# Altium integrated library Maxim Sensors.IntLib: 1172 symbols (part 30 of 61)
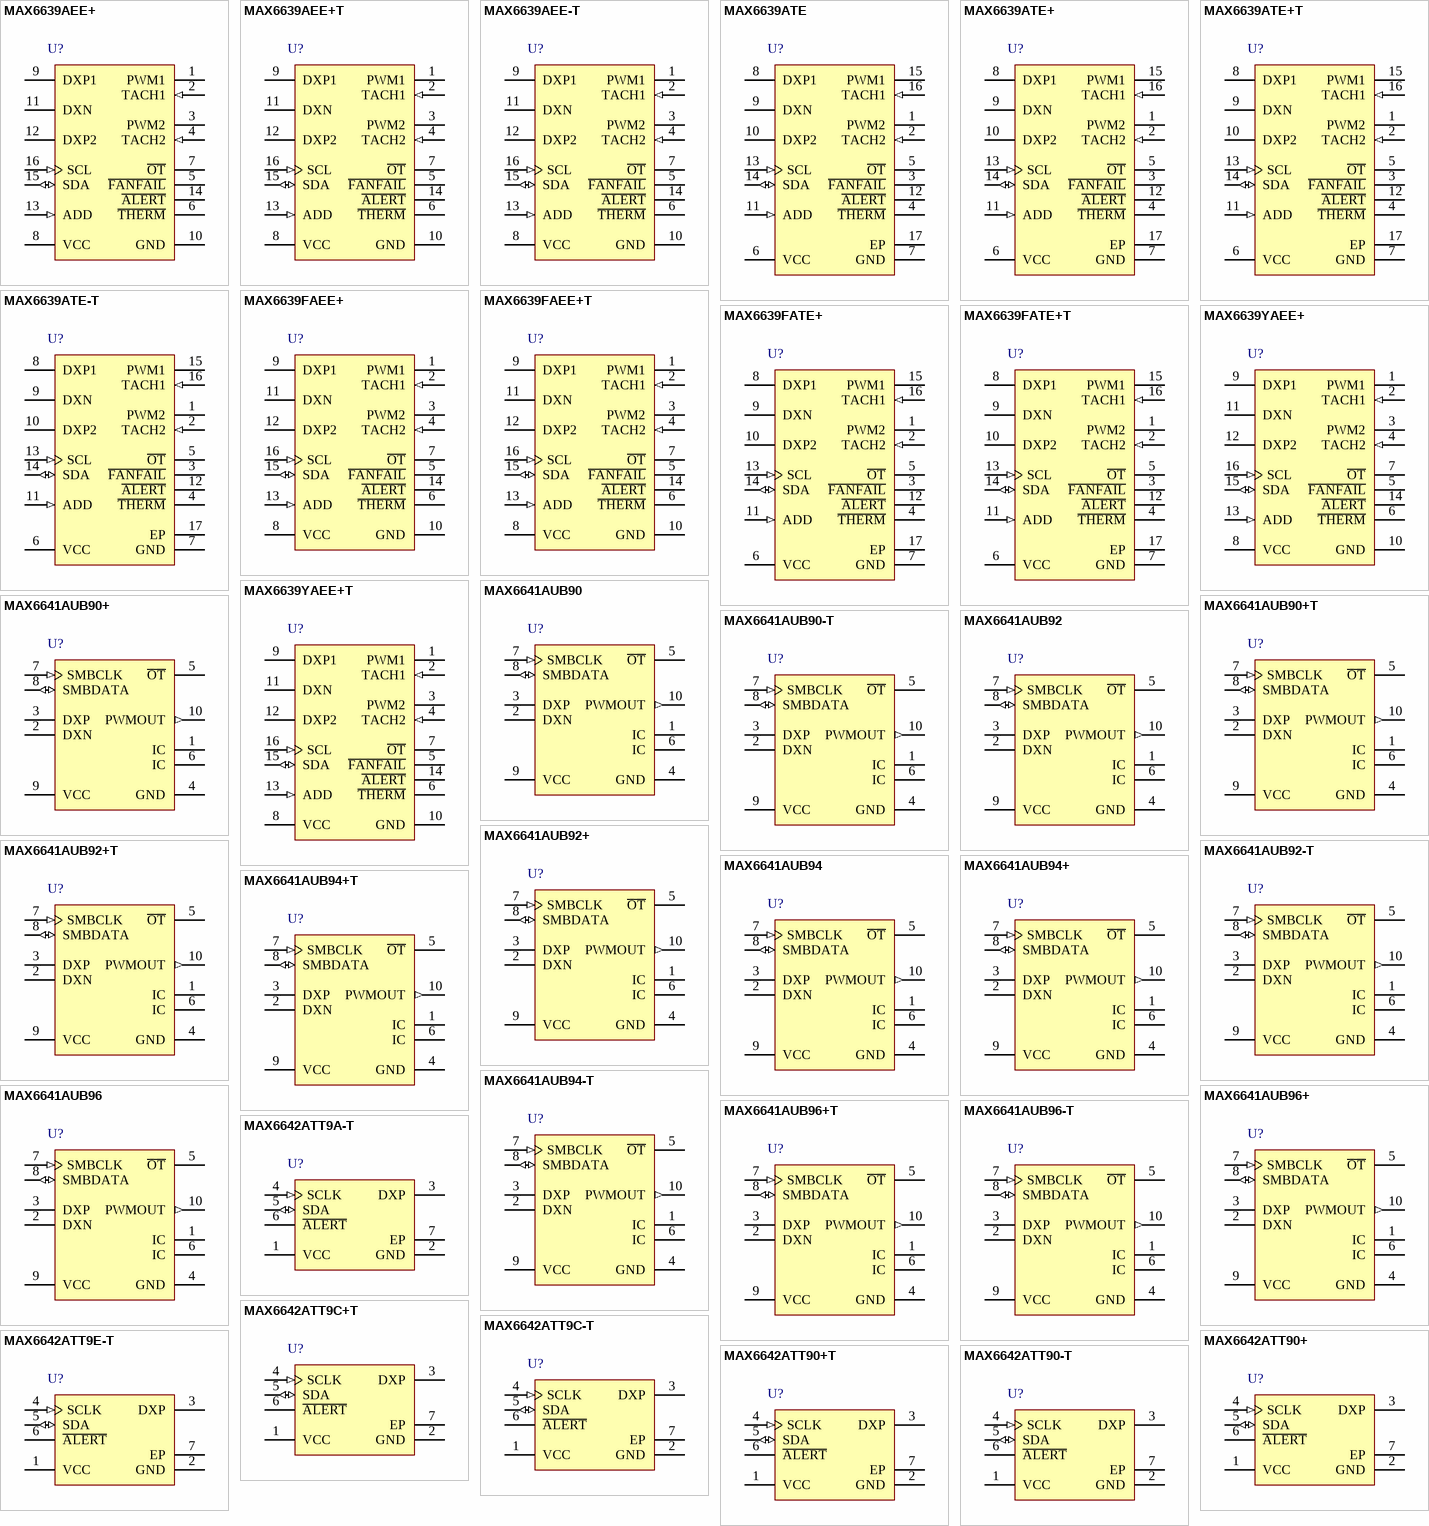
[diagram p62: symbols MAX6639AEE+ to MAX6642ATT90-T]

## MAX6641AUB90-T
designator U?
SMBus-Compatible Temperature Monitor with Automatic PWM Fan-Speed Controller, -40 to 125 degC, 10-Pin SOP (U10-2), Pb-Free, Tape and Reel; Generic Part Number: MAX6641; PartNumber: MAX6641AUB90-T; Interface: 2-Wire/I2C/SMBus; DatasheetVersion: Rev. 1; PackageVersion: Rev. L, 07/2008; PackageReference: U10-2; PackageDescription: 10-Pin Micro-MAX, Thin Shrink Small-Outline (U10-2), Body 3 x 3 mm, Pitch 0.5 mm; Supplier 1: Mouser; Supplier Part Number 1: N/A; Fan Cntrl.: PWM; Packing: Tape and Reel; Mounting Technology: Surface Mount; Code_JEDEC: MO-187; ComponentLink1Description: Manufacturer URL; ComponentLink1URL: http://www.maximintegrated.com/; ComponentLink2Description: Datasheet; ComponentLink2URL: http://datasheets.maximintegrated.com/en/ds/MAX6641.pdf; ComponentLink3Description: Package Specification; ComponentLink3URL: http://pdfserv.maximintegrated.com/package_dwgs/21-0061.PDF
footprint MAXM-U10-2_N (SOP, 10-Leads, Body 3x3mm, Pitch 0.5mm, IPC Medium Density)
footprint MAXM-U10-2_L (SOP, 10-Leads, Body 3x3mm, Pitch 0.5mm, IPC High Density)
footprint MAXM-U10-2_M (SOP, 10-Leads, Body 3x3mm, Pitch 0.5mm, IPC Low Density)
pins: 1 IC (power) "Internally Connected. Must be connected to GND.", 2 DXN "Combined Remote-Diode Cathode Connection and A/D Negative Input. Connect the cathode of the remote-diode-connected transistor to DXN.", 3 DXP "Combined Remote-Diode Current Source and A/D Positive Input for Remote-Diode Channel. Connect DXP to the anode of a remote-diode-connected temperature-sensing transistor. DO NOT EAVE DXP FLOATING; connect to DXN if no remote (See Datasheet)", 4 GND (power) "Ground", 5 ~{OT} (hiz) "Active-Low, Open-Drain, Over-Temperature Output. Use O\T\ as an interrupt, a system shutdown signal, or to control clock throttling. O\T\ can be pulled up to 5.5V, regardless of the voltage on VCC. O\T\ is high impedance (See Datasheet)", 6 IC (power) "Internally Connected. Must be connected to GND.", 7 SMBCLK (in) "SMBus Serial-Clock Input. SMBCLK can be pulled up to 5.5V, regardless of VCC. Open drain.SMBCLK is high impedance when VCC = 0.", 8 SMBDATA (io) "SMBus Serial-Data Input/Output. SMBDATA can be pulled up to 5.5V, regardless of VCC. Open drain. SMBDATA is high impedance when VCC = 0.", 9 VCC (power) "Positive Supply. Bypass with a 0.1uF capacitor to GND.", 10 PWMOUT (out) "PWM Output to Fan Power Transistor. Connect PWMOUT to the gate of a MOSFET or the base of a bipolar transistor to drive the fan’s power supply with a PWM waveform. Alternatively, the PWM output can be connected to the PWM (See Datasheet)"

## MAX6641AUB92
designator U?
SMBus-Compatible Temperature Monitor with Automatic PWM Fan-Speed Controller, -40 to 125 degC, 10-Pin SOP (U10-2); Generic Part Number: MAX6641; PartNumber: MAX6641AUB92; Interface: 2-Wire/I2C/SMBus; DatasheetVersion: Rev. 1; PackageVersion: Rev. L, 07/2008; PackageReference: U10-2; PackageDescription: 10-Pin Micro-MAX, Thin Shrink Small-Outline (U10-2), Body 3 x 3 mm, Pitch 0.5 mm; Supplier 1: Mouser; Supplier Part Number 1: N/A; Fan Cntrl.: PWM; Mounting Technology: Surface Mount; Code_JEDEC: MO-187; ComponentLink1Description: Manufacturer URL; ComponentLink1URL: http://www.maximintegrated.com/; ComponentLink2Description: Datasheet; ComponentLink2URL: http://datasheets.maximintegrated.com/en/ds/MAX6641.pdf; ComponentLink3Description: Package Specification; ComponentLink3URL: http://pdfserv.maximintegrated.com/package_dwgs/21-0061.PDF
footprint MAXM-U10-2_N (SOP, 10-Leads, Body 3x3mm, Pitch 0.5mm, IPC Medium Density)
footprint MAXM-U10-2_L (SOP, 10-Leads, Body 3x3mm, Pitch 0.5mm, IPC High Density)
footprint MAXM-U10-2_M (SOP, 10-Leads, Body 3x3mm, Pitch 0.5mm, IPC Low Density)
pins: 1 IC (power) "Internally Connected. Must be connected to GND.", 2 DXN "Combined Remote-Diode Cathode Connection and A/D Negative Input. Connect the cathode of the remote-diode-connected transistor to DXN.", 3 DXP "Combined Remote-Diode Current Source and A/D Positive Input for Remote-Diode Channel. Connect DXP to the anode of a remote-diode-connected temperature-sensing transistor. DO NOT EAVE DXP FLOATING; connect to DXN if no remote (See Datasheet)", 4 GND (power) "Ground", 5 ~{OT} (hiz) "Active-Low, Open-Drain, Over-Temperature Output. Use O\T\ as an interrupt, a system shutdown signal, or to control clock throttling. O\T\ can be pulled up to 5.5V, regardless of the voltage on VCC. O\T\ is high impedance (See Datasheet)", 6 IC (power) "Internally Connected. Must be connected to GND.", 7 SMBCLK (in) "SMBus Serial-Clock Input. SMBCLK can be pulled up to 5.5V, regardless of VCC. Open drain.SMBCLK is high impedance when VCC = 0.", 8 SMBDATA (io) "SMBus Serial-Data Input/Output. SMBDATA can be pulled up to 5.5V, regardless of VCC. Open drain. SMBDATA is high impedance when VCC = 0.", 9 VCC (power) "Positive Supply. Bypass with a 0.1uF capacitor to GND.", 10 PWMOUT (out) "PWM Output to Fan Power Transistor. Connect PWMOUT to the gate of a MOSFET or the base of a bipolar transistor to drive the fan’s power supply with a PWM waveform. Alternatively, the PWM output can be connected to the PWM (See Datasheet)"

## MAX6641AUB92+
designator U?
SMBus-Compatible Temperature Monitor with Automatic PWM Fan-Speed Controller, -40 to 125 degC, 10-Pin SOP (U10+2), Pb-Free; Generic Part Number: MAX6641; PartNumber: MAX6641AUB92+; Interface: 2-Wire/I2C/SMBus; DatasheetVersion: Rev. 1; PackageVersion: Rev. L, 07/2008; PackageReference: U10+2; PackageDescription: 10-Pin Micro-MAX, Thin Shrink Small-Outline (U10+2), Body 3 x 3 mm, Pitch 0.5 mm; Supplier 1: Digi-Key; Supplier Part Number 1: MAX6641AUB92+-ND; Supplier 2: Mouser; Supplier Part Number 2: 700-MAX6641AUB92; Fan Cntrl.: PWM; Mounting Technology: Surface Mount; Code_JEDEC: MO-187; ComponentLink1Description: Manufacturer URL; ComponentLink1URL: http://www.maximintegrated.com/; ComponentLink2Description: Datasheet; ComponentLink2URL: http://datasheets.maximintegrated.com/en/ds/MAX6641.pdf; ComponentLink3Description: Package Specification; ComponentLink3URL: http://pdfserv.maximintegrated.com/package_dwgs/21-0061.PDF
footprint MAXM-U10+2_N (SOP, 10-Leads, Body 3x3mm, Pitch 0.5mm, IPC Medium Density)
footprint MAXM-U10+2_L (SOP, 10-Leads, Body 3x3mm, Pitch 0.5mm, IPC High Density)
footprint MAXM-U10+2_M (SOP, 10-Leads, Body 3x3mm, Pitch 0.5mm, IPC Low Density)
pins: 1 IC (power) "Internally Connected. Must be connected to GND.", 2 DXN "Combined Remote-Diode Cathode Connection and A/D Negative Input. Connect the cathode of the remote-diode-connected transistor to DXN.", 3 DXP "Combined Remote-Diode Current Source and A/D Positive Input for Remote-Diode Channel. Connect DXP to the anode of a remote-diode-connected temperature-sensing transistor. DO NOT EAVE DXP FLOATING; connect to DXN if no remote (See Datasheet)", 4 GND (power) "Ground", 5 ~{OT} (hiz) "Active-Low, Open-Drain, Over-Temperature Output. Use O\T\ as an interrupt, a system shutdown signal, or to control clock throttling. O\T\ can be pulled up to 5.5V, regardless of the voltage on VCC. O\T\ is high impedance (See Datasheet)", 6 IC (power) "Internally Connected. Must be connected to GND.", 7 SMBCLK (in) "SMBus Serial-Clock Input. SMBCLK can be pulled up to 5.5V, regardless of VCC. Open drain.SMBCLK is high impedance when VCC = 0.", 8 SMBDATA (io) "SMBus Serial-Data Input/Output. SMBDATA can be pulled up to 5.5V, regardless of VCC. Open drain. SMBDATA is high impedance when VCC = 0.", 9 VCC (power) "Positive Supply. Bypass with a 0.1uF capacitor to GND.", 10 PWMOUT (out) "PWM Output to Fan Power Transistor. Connect PWMOUT to the gate of a MOSFET or the base of a bipolar transistor to drive the fan’s power supply with a PWM waveform. Alternatively, the PWM output can be connected to the PWM (See Datasheet)"

## MAX6641AUB92+T
designator U?
SMBus-Compatible Temperature Monitor with Automatic PWM Fan-Speed Controller, -40 to 125 degC, 10-Pin SOP (U10+2), Pb-Free, Tape and Reel; Generic Part Number: MAX6641; PartNumber: MAX6641AUB92+T; Interface: 2-Wire/I2C/SMBus; DatasheetVersion: Rev. 1; PackageVersion: Rev. L, 07/2008; PackageReference: U10+2; PackageDescription: 10-Pin Micro-MAX, Thin Shrink Small-Outline (U10+2), Body 3 x 3 mm, Pitch 0.5 mm; Supplier 1: Digi-Key; Supplier Part Number 1: MAX6641AUB92+T-ND; Supplier 2: Mouser; Supplier Part Number 2: 700-MAX6641AUB92T; Fan Cntrl.: PWM; Packing: Tape and Reel; Mounting Technology: Surface Mount; Code_JEDEC: MO-187; ComponentLink1Description: Manufacturer URL; ComponentLink1URL: http://www.maximintegrated.com/; ComponentLink2Description: Datasheet; ComponentLink2URL: http://datasheets.maximintegrated.com/en/ds/MAX6641.pdf; ComponentLink3Description: Package Specification; ComponentLink3URL: http://pdfserv.maximintegrated.com/package_dwgs/21-0061.PDF
footprint MAXM-U10+2_N (SOP, 10-Leads, Body 3x3mm, Pitch 0.5mm, IPC Medium Density)
footprint MAXM-U10+2_L (SOP, 10-Leads, Body 3x3mm, Pitch 0.5mm, IPC High Density)
footprint MAXM-U10+2_M (SOP, 10-Leads, Body 3x3mm, Pitch 0.5mm, IPC Low Density)
pins: 1 IC (power) "Internally Connected. Must be connected to GND.", 2 DXN "Combined Remote-Diode Cathode Connection and A/D Negative Input. Connect the cathode of the remote-diode-connected transistor to DXN.", 3 DXP "Combined Remote-Diode Current Source and A/D Positive Input for Remote-Diode Channel. Connect DXP to the anode of a remote-diode-connected temperature-sensing transistor. DO NOT EAVE DXP FLOATING; connect to DXN if no remote (See Datasheet)", 4 GND (power) "Ground", 5 ~{OT} (hiz) "Active-Low, Open-Drain, Over-Temperature Output. Use O\T\ as an interrupt, a system shutdown signal, or to control clock throttling. O\T\ can be pulled up to 5.5V, regardless of the voltage on VCC. O\T\ is high impedance (See Datasheet)", 6 IC (power) "Internally Connected. Must be connected to GND.", 7 SMBCLK (in) "SMBus Serial-Clock Input. SMBCLK can be pulled up to 5.5V, regardless of VCC. Open drain.SMBCLK is high impedance when VCC = 0.", 8 SMBDATA (io) "SMBus Serial-Data Input/Output. SMBDATA can be pulled up to 5.5V, regardless of VCC. Open drain. SMBDATA is high impedance when VCC = 0.", 9 VCC (power) "Positive Supply. Bypass with a 0.1uF capacitor to GND.", 10 PWMOUT (out) "PWM Output to Fan Power Transistor. Connect PWMOUT to the gate of a MOSFET or the base of a bipolar transistor to drive the fan’s power supply with a PWM waveform. Alternatively, the PWM output can be connected to the PWM (See Datasheet)"

## MAX6641AUB92-T
designator U?
SMBus-Compatible Temperature Monitor with Automatic PWM Fan-Speed Controller, -40 to 125 degC, 10-Pin SOP (U10-2), Pb-Free, Tape and Reel; Generic Part Number: MAX6641; PartNumber: MAX6641AUB92-T; Interface: 2-Wire/I2C/SMBus; DatasheetVersion: Rev. 1; PackageVersion: Rev. L, 07/2008; PackageReference: U10-2; PackageDescription: 10-Pin Micro-MAX, Thin Shrink Small-Outline (U10-2), Body 3 x 3 mm, Pitch 0.5 mm; Supplier 1: Mouser; Supplier Part Number 1: N/A; Fan Cntrl.: PWM; Packing: Tape and Reel; Mounting Technology: Surface Mount; Code_JEDEC: MO-187; ComponentLink1Description: Manufacturer URL; ComponentLink1URL: http://www.maximintegrated.com/; ComponentLink2Description: Datasheet; ComponentLink2URL: http://datasheets.maximintegrated.com/en/ds/MAX6641.pdf; ComponentLink3Description: Package Specification; ComponentLink3URL: http://pdfserv.maximintegrated.com/package_dwgs/21-0061.PDF
footprint MAXM-U10-2_N (SOP, 10-Leads, Body 3x3mm, Pitch 0.5mm, IPC Medium Density)
footprint MAXM-U10-2_L (SOP, 10-Leads, Body 3x3mm, Pitch 0.5mm, IPC High Density)
footprint MAXM-U10-2_M (SOP, 10-Leads, Body 3x3mm, Pitch 0.5mm, IPC Low Density)
pins: 1 IC (power) "Internally Connected. Must be connected to GND.", 2 DXN "Combined Remote-Diode Cathode Connection and A/D Negative Input. Connect the cathode of the remote-diode-connected transistor to DXN.", 3 DXP "Combined Remote-Diode Current Source and A/D Positive Input for Remote-Diode Channel. Connect DXP to the anode of a remote-diode-connected temperature-sensing transistor. DO NOT EAVE DXP FLOATING; connect to DXN if no remote (See Datasheet)", 4 GND (power) "Ground", 5 ~{OT} (hiz) "Active-Low, Open-Drain, Over-Temperature Output. Use O\T\ as an interrupt, a system shutdown signal, or to control clock throttling. O\T\ can be pulled up to 5.5V, regardless of the voltage on VCC. O\T\ is high impedance (See Datasheet)", 6 IC (power) "Internally Connected. Must be connected to GND.", 7 SMBCLK (in) "SMBus Serial-Clock Input. SMBCLK can be pulled up to 5.5V, regardless of VCC. Open drain.SMBCLK is high impedance when VCC = 0.", 8 SMBDATA (io) "SMBus Serial-Data Input/Output. SMBDATA can be pulled up to 5.5V, regardless of VCC. Open drain. SMBDATA is high impedance when VCC = 0.", 9 VCC (power) "Positive Supply. Bypass with a 0.1uF capacitor to GND.", 10 PWMOUT (out) "PWM Output to Fan Power Transistor. Connect PWMOUT to the gate of a MOSFET or the base of a bipolar transistor to drive the fan’s power supply with a PWM waveform. Alternatively, the PWM output can be connected to the PWM (See Datasheet)"

## MAX6641AUB94
designator U?
SMBus-Compatible Temperature Monitor with Automatic PWM Fan-Speed Controller, -40 to 125 degC, 10-Pin SOP (U10-2); Generic Part Number: MAX6641; PartNumber: MAX6641AUB94; Interface: 2-Wire/I2C/SMBus; DatasheetVersion: Rev. 1; PackageVersion: Rev. L, 07/2008; PackageReference: U10-2; PackageDescription: 10-Pin Micro-MAX, Thin Shrink Small-Outline (U10-2), Body 3 x 3 mm, Pitch 0.5 mm; Supplier 1: Mouser; Supplier Part Number 1: N/A; Fan Cntrl.: PWM; Mounting Technology: Surface Mount; Code_JEDEC: MO-187; ComponentLink1Description: Manufacturer URL; ComponentLink1URL: http://www.maximintegrated.com/; ComponentLink2Description: Datasheet; ComponentLink2URL: http://datasheets.maximintegrated.com/en/ds/MAX6641.pdf; ComponentLink3Description: Package Specification; ComponentLink3URL: http://pdfserv.maximintegrated.com/package_dwgs/21-0061.PDF
footprint MAXM-U10-2_N (SOP, 10-Leads, Body 3x3mm, Pitch 0.5mm, IPC Medium Density)
footprint MAXM-U10-2_L (SOP, 10-Leads, Body 3x3mm, Pitch 0.5mm, IPC High Density)
footprint MAXM-U10-2_M (SOP, 10-Leads, Body 3x3mm, Pitch 0.5mm, IPC Low Density)
pins: 1 IC (power) "Internally Connected. Must be connected to GND.", 2 DXN "Combined Remote-Diode Cathode Connection and A/D Negative Input. Connect the cathode of the remote-diode-connected transistor to DXN.", 3 DXP "Combined Remote-Diode Current Source and A/D Positive Input for Remote-Diode Channel. Connect DXP to the anode of a remote-diode-connected temperature-sensing transistor. DO NOT EAVE DXP FLOATING; connect to DXN if no remote (See Datasheet)", 4 GND (power) "Ground", 5 ~{OT} (hiz) "Active-Low, Open-Drain, Over-Temperature Output. Use O\T\ as an interrupt, a system shutdown signal, or to control clock throttling. O\T\ can be pulled up to 5.5V, regardless of the voltage on VCC. O\T\ is high impedance (See Datasheet)", 6 IC (power) "Internally Connected. Must be connected to GND.", 7 SMBCLK (in) "SMBus Serial-Clock Input. SMBCLK can be pulled up to 5.5V, regardless of VCC. Open drain.SMBCLK is high impedance when VCC = 0.", 8 SMBDATA (io) "SMBus Serial-Data Input/Output. SMBDATA can be pulled up to 5.5V, regardless of VCC. Open drain. SMBDATA is high impedance when VCC = 0.", 9 VCC (power) "Positive Supply. Bypass with a 0.1uF capacitor to GND.", 10 PWMOUT (out) "PWM Output to Fan Power Transistor. Connect PWMOUT to the gate of a MOSFET or the base of a bipolar transistor to drive the fan’s power supply with a PWM waveform. Alternatively, the PWM output can be connected to the PWM (See Datasheet)"

## MAX6641AUB94+
designator U?
SMBus-Compatible Temperature Monitor with Automatic PWM Fan-Speed Controller, -40 to 125 degC, 10-Pin SOP (U10+2), Pb-Free; Generic Part Number: MAX6641; PartNumber: MAX6641AUB94+; Interface: 2-Wire/I2C/SMBus; DatasheetVersion: Rev. 1; PackageVersion: Rev. L, 07/2008; PackageReference: U10+2; PackageDescription: 10-Pin Micro-MAX, Thin Shrink Small-Outline (U10+2), Body 3 x 3 mm, Pitch 0.5 mm; Supplier 1: Digi-Key; Supplier Part Number 1: MAX6641AUB94+-ND; Supplier 2: Mouser; Supplier Part Number 2: 700-MAX6641AUB94; Fan Cntrl.: PWM; Mounting Technology: Surface Mount; Code_JEDEC: MO-187; ComponentLink1Description: Manufacturer URL; ComponentLink1URL: http://www.maximintegrated.com/; ComponentLink2Description: Datasheet; ComponentLink2URL: http://datasheets.maximintegrated.com/en/ds/MAX6641.pdf; ComponentLink3Description: Package Specification; ComponentLink3URL: http://pdfserv.maximintegrated.com/package_dwgs/21-0061.PDF
footprint MAXM-U10+2_N (SOP, 10-Leads, Body 3x3mm, Pitch 0.5mm, IPC Medium Density)
footprint MAXM-U10+2_L (SOP, 10-Leads, Body 3x3mm, Pitch 0.5mm, IPC High Density)
footprint MAXM-U10+2_M (SOP, 10-Leads, Body 3x3mm, Pitch 0.5mm, IPC Low Density)
pins: 1 IC (power) "Internally Connected. Must be connected to GND.", 2 DXN "Combined Remote-Diode Cathode Connection and A/D Negative Input. Connect the cathode of the remote-diode-connected transistor to DXN.", 3 DXP "Combined Remote-Diode Current Source and A/D Positive Input for Remote-Diode Channel. Connect DXP to the anode of a remote-diode-connected temperature-sensing transistor. DO NOT EAVE DXP FLOATING; connect to DXN if no remote (See Datasheet)", 4 GND (power) "Ground", 5 ~{OT} (hiz) "Active-Low, Open-Drain, Over-Temperature Output. Use O\T\ as an interrupt, a system shutdown signal, or to control clock throttling. O\T\ can be pulled up to 5.5V, regardless of the voltage on VCC. O\T\ is high impedance (See Datasheet)", 6 IC (power) "Internally Connected. Must be connected to GND.", 7 SMBCLK (in) "SMBus Serial-Clock Input. SMBCLK can be pulled up to 5.5V, regardless of VCC. Open drain.SMBCLK is high impedance when VCC = 0.", 8 SMBDATA (io) "SMBus Serial-Data Input/Output. SMBDATA can be pulled up to 5.5V, regardless of VCC. Open drain. SMBDATA is high impedance when VCC = 0.", 9 VCC (power) "Positive Supply. Bypass with a 0.1uF capacitor to GND.", 10 PWMOUT (out) "PWM Output to Fan Power Transistor. Connect PWMOUT to the gate of a MOSFET or the base of a bipolar transistor to drive the fan’s power supply with a PWM waveform. Alternatively, the PWM output can be connected to the PWM (See Datasheet)"

## MAX6641AUB94+T
designator U?
SMBus-Compatible Temperature Monitor with Automatic PWM Fan-Speed Controller, -40 to 125 degC, 10-Pin SOP (U10+2), Pb-Free, Tape and Reel; Generic Part Number: MAX6641; PartNumber: MAX6641AUB94+T; Interface: 2-Wire/I2C/SMBus; DatasheetVersion: Rev. 1; PackageVersion: Rev. L, 07/2008; PackageReference: U10+2; PackageDescription: 10-Pin Micro-MAX, Thin Shrink Small-Outline (U10+2), Body 3 x 3 mm, Pitch 0.5 mm; Supplier 1: Digi-Key; Supplier Part Number 1: MAX6641AUB94+T-ND; Supplier 2: Mouser; Supplier Part Number 2: 700-MAX6641AUB94T; Fan Cntrl.: PWM; Packing: Tape and Reel; Mounting Technology: Surface Mount; Code_JEDEC: MO-187; ComponentLink1Description: Manufacturer URL; ComponentLink1URL: http://www.maximintegrated.com/; ComponentLink2Description: Datasheet; ComponentLink2URL: http://datasheets.maximintegrated.com/en/ds/MAX6641.pdf; ComponentLink3Description: Package Specification; ComponentLink3URL: http://pdfserv.maximintegrated.com/package_dwgs/21-0061.PDF
footprint MAXM-U10+2_N (SOP, 10-Leads, Body 3x3mm, Pitch 0.5mm, IPC Medium Density)
footprint MAXM-U10+2_L (SOP, 10-Leads, Body 3x3mm, Pitch 0.5mm, IPC High Density)
footprint MAXM-U10+2_M (SOP, 10-Leads, Body 3x3mm, Pitch 0.5mm, IPC Low Density)
pins: 1 IC (power) "Internally Connected. Must be connected to GND.", 2 DXN "Combined Remote-Diode Cathode Connection and A/D Negative Input. Connect the cathode of the remote-diode-connected transistor to DXN.", 3 DXP "Combined Remote-Diode Current Source and A/D Positive Input for Remote-Diode Channel. Connect DXP to the anode of a remote-diode-connected temperature-sensing transistor. DO NOT EAVE DXP FLOATING; connect to DXN if no remote (See Datasheet)", 4 GND (power) "Ground", 5 ~{OT} (hiz) "Active-Low, Open-Drain, Over-Temperature Output. Use O\T\ as an interrupt, a system shutdown signal, or to control clock throttling. O\T\ can be pulled up to 5.5V, regardless of the voltage on VCC. O\T\ is high impedance (See Datasheet)", 6 IC (power) "Internally Connected. Must be connected to GND.", 7 SMBCLK (in) "SMBus Serial-Clock Input. SMBCLK can be pulled up to 5.5V, regardless of VCC. Open drain.SMBCLK is high impedance when VCC = 0.", 8 SMBDATA (io) "SMBus Serial-Data Input/Output. SMBDATA can be pulled up to 5.5V, regardless of VCC. Open drain. SMBDATA is high impedance when VCC = 0.", 9 VCC (power) "Positive Supply. Bypass with a 0.1uF capacitor to GND.", 10 PWMOUT (out) "PWM Output to Fan Power Transistor. Connect PWMOUT to the gate of a MOSFET or the base of a bipolar transistor to drive the fan’s power supply with a PWM waveform. Alternatively, the PWM output can be connected to the PWM (See Datasheet)"

## MAX6641AUB94-T
designator U?
SMBus-Compatible Temperature Monitor with Automatic PWM Fan-Speed Controller, -40 to 125 degC, 10-Pin SOP (U10-2), Tape and Reel; Generic Part Number: MAX6641; PartNumber: MAX6641AUB94-T; Interface: 2-Wire/I2C/SMBus; DatasheetVersion: Rev. 1; PackageVersion: Rev. L, 07/2008; PackageReference: U10-2; PackageDescription: 10-Pin Micro-MAX, Thin Shrink Small-Outline (U10-2), Body 3 x 3 mm, Pitch 0.5 mm; Supplier 1: Mouser; Supplier Part Number 1: N/A; Fan Cntrl.: PWM; Packing: Tape and Reel; Mounting Technology: Surface Mount; Code_JEDEC: MO-187; ComponentLink1Description: Manufacturer URL; ComponentLink1URL: http://www.maximintegrated.com/; ComponentLink2Description: Datasheet; ComponentLink2URL: http://datasheets.maximintegrated.com/en/ds/MAX6641.pdf; ComponentLink3Description: Package Specification; ComponentLink3URL: http://pdfserv.maximintegrated.com/package_dwgs/21-0061.PDF
footprint MAXM-U10-2_N (SOP, 10-Leads, Body 3x3mm, Pitch 0.5mm, IPC Medium Density)
footprint MAXM-U10-2_L (SOP, 10-Leads, Body 3x3mm, Pitch 0.5mm, IPC High Density)
footprint MAXM-U10-2_M (SOP, 10-Leads, Body 3x3mm, Pitch 0.5mm, IPC Low Density)
pins: 1 IC (power) "Internally Connected. Must be connected to GND.", 2 DXN "Combined Remote-Diode Cathode Connection and A/D Negative Input. Connect the cathode of the remote-diode-connected transistor to DXN.", 3 DXP "Combined Remote-Diode Current Source and A/D Positive Input for Remote-Diode Channel. Connect DXP to the anode of a remote-diode-connected temperature-sensing transistor. DO NOT EAVE DXP FLOATING; connect to DXN if no remote (See Datasheet)", 4 GND (power) "Ground", 5 ~{OT} (hiz) "Active-Low, Open-Drain, Over-Temperature Output. Use O\T\ as an interrupt, a system shutdown signal, or to control clock throttling. O\T\ can be pulled up to 5.5V, regardless of the voltage on VCC. O\T\ is high impedance (See Datasheet)", 6 IC (power) "Internally Connected. Must be connected to GND.", 7 SMBCLK (in) "SMBus Serial-Clock Input. SMBCLK can be pulled up to 5.5V, regardless of VCC. Open drain.SMBCLK is high impedance when VCC = 0.", 8 SMBDATA (io) "SMBus Serial-Data Input/Output. SMBDATA can be pulled up to 5.5V, regardless of VCC. Open drain. SMBDATA is high impedance when VCC = 0.", 9 VCC (power) "Positive Supply. Bypass with a 0.1uF capacitor to GND.", 10 PWMOUT (out) "PWM Output to Fan Power Transistor. Connect PWMOUT to the gate of a MOSFET or the base of a bipolar transistor to drive the fan’s power supply with a PWM waveform. Alternatively, the PWM output can be connected to the PWM (See Datasheet)"

## MAX6641AUB96
designator U?
SMBus-Compatible Temperature Monitor with Automatic PWM Fan-Speed Controller, -40 to 125 degC, 10-Pin SOP (U10-2); Generic Part Number: MAX6641; PartNumber: MAX6641AUB96; Interface: 2-Wire/I2C/SMBus; DatasheetVersion: Rev. 1; PackageVersion: Rev. L, 07/2008; PackageReference: U10-2; PackageDescription: 10-Pin Micro-MAX, Thin Shrink Small-Outline (U10-2), Body 3 x 3 mm, Pitch 0.5 mm; Supplier 1: Mouser; Supplier Part Number 1: N/A; Fan Cntrl.: PWM; Mounting Technology: Surface Mount; Code_JEDEC: MO-187; ComponentLink1Description: Manufacturer URL; ComponentLink1URL: http://www.maximintegrated.com/; ComponentLink2Description: Datasheet; ComponentLink2URL: http://datasheets.maximintegrated.com/en/ds/MAX6641.pdf; ComponentLink3Description: Package Specification; ComponentLink3URL: http://pdfserv.maximintegrated.com/package_dwgs/21-0061.PDF
footprint MAXM-U10-2_N (SOP, 10-Leads, Body 3x3mm, Pitch 0.5mm, IPC Medium Density)
footprint MAXM-U10-2_L (SOP, 10-Leads, Body 3x3mm, Pitch 0.5mm, IPC High Density)
footprint MAXM-U10-2_M (SOP, 10-Leads, Body 3x3mm, Pitch 0.5mm, IPC Low Density)
pins: 1 IC (power) "Internally Connected. Must be connected to GND.", 2 DXN "Combined Remote-Diode Cathode Connection and A/D Negative Input. Connect the cathode of the remote-diode-connected transistor to DXN.", 3 DXP "Combined Remote-Diode Current Source and A/D Positive Input for Remote-Diode Channel. Connect DXP to the anode of a remote-diode-connected temperature-sensing transistor. DO NOT EAVE DXP FLOATING; connect to DXN if no remote (See Datasheet)", 4 GND (power) "Ground", 5 ~{OT} (hiz) "Active-Low, Open-Drain, Over-Temperature Output. Use O\T\ as an interrupt, a system shutdown signal, or to control clock throttling. O\T\ can be pulled up to 5.5V, regardless of the voltage on VCC. O\T\ is high impedance (See Datasheet)", 6 IC (power) "Internally Connected. Must be connected to GND.", 7 SMBCLK (in) "SMBus Serial-Clock Input. SMBCLK can be pulled up to 5.5V, regardless of VCC. Open drain.SMBCLK is high impedance when VCC = 0.", 8 SMBDATA (io) "SMBus Serial-Data Input/Output. SMBDATA can be pulled up to 5.5V, regardless of VCC. Open drain. SMBDATA is high impedance when VCC = 0.", 9 VCC (power) "Positive Supply. Bypass with a 0.1uF capacitor to GND.", 10 PWMOUT (out) "PWM Output to Fan Power Transistor. Connect PWMOUT to the gate of a MOSFET or the base of a bipolar transistor to drive the fan’s power supply with a PWM waveform. Alternatively, the PWM output can be connected to the PWM (See Datasheet)"

## MAX6641AUB96+
designator U?
SMBus-Compatible Temperature Monitor with Automatic PWM Fan-Speed Controller, -40 to 125 degC, 10-Pin SOP (U10+2), Pb-Free; Generic Part Number: MAX6641; PartNumber: MAX6641AUB96+; Interface: 2-Wire/I2C/SMBus; DatasheetVersion: Rev. 1; PackageVersion: Rev. L, 07/2008; PackageReference: U10+2; PackageDescription: 10-Pin Micro-MAX, Thin Shrink Small-Outline (U10+2), Body 3 x 3 mm, Pitch 0.5 mm; Supplier 1: Digi-Key; Supplier Part Number 1: MAX6641AUB96+-ND; Supplier 2: Mouser; Supplier Part Number 2: 700-MAX6641AUB96; Fan Cntrl.: PWM; Mounting Technology: Surface Mount; Code_JEDEC: MO-187; ComponentLink1Description: Manufacturer URL; ComponentLink1URL: http://www.maximintegrated.com/; ComponentLink2Description: Datasheet; ComponentLink2URL: http://datasheets.maximintegrated.com/en/ds/MAX6641.pdf; ComponentLink3Description: Package Specification; ComponentLink3URL: http://pdfserv.maximintegrated.com/package_dwgs/21-0061.PDF
footprint MAXM-U10+2_N (SOP, 10-Leads, Body 3x3mm, Pitch 0.5mm, IPC Medium Density)
footprint MAXM-U10+2_L (SOP, 10-Leads, Body 3x3mm, Pitch 0.5mm, IPC High Density)
footprint MAXM-U10+2_M (SOP, 10-Leads, Body 3x3mm, Pitch 0.5mm, IPC Low Density)
pins: 1 IC (power) "Internally Connected. Must be connected to GND.", 2 DXN "Combined Remote-Diode Cathode Connection and A/D Negative Input. Connect the cathode of the remote-diode-connected transistor to DXN.", 3 DXP "Combined Remote-Diode Current Source and A/D Positive Input for Remote-Diode Channel. Connect DXP to the anode of a remote-diode-connected temperature-sensing transistor. DO NOT EAVE DXP FLOATING; connect to DXN if no remote (See Datasheet)", 4 GND (power) "Ground", 5 ~{OT} (hiz) "Active-Low, Open-Drain, Over-Temperature Output. Use O\T\ as an interrupt, a system shutdown signal, or to control clock throttling. O\T\ can be pulled up to 5.5V, regardless of the voltage on VCC. O\T\ is high impedance (See Datasheet)", 6 IC (power) "Internally Connected. Must be connected to GND.", 7 SMBCLK (in) "SMBus Serial-Clock Input. SMBCLK can be pulled up to 5.5V, regardless of VCC. Open drain.SMBCLK is high impedance when VCC = 0.", 8 SMBDATA (io) "SMBus Serial-Data Input/Output. SMBDATA can be pulled up to 5.5V, regardless of VCC. Open drain. SMBDATA is high impedance when VCC = 0.", 9 VCC (power) "Positive Supply. Bypass with a 0.1uF capacitor to GND.", 10 PWMOUT (out) "PWM Output to Fan Power Transistor. Connect PWMOUT to the gate of a MOSFET or the base of a bipolar transistor to drive the fan’s power supply with a PWM waveform. Alternatively, the PWM output can be connected to the PWM (See Datasheet)"

## MAX6641AUB96+T
designator U?
SMBus-Compatible Temperature Monitor with Automatic PWM Fan-Speed Controller, -40 to 125 degC, 10-Pin SOP (U10+2), Pb-Free, Tape and Reel; Generic Part Number: MAX6641; PartNumber: MAX6641AUB96+T; Interface: 2-Wire/I2C/SMBus; DatasheetVersion: Rev. 1; PackageVersion: Rev. L, 07/2008; PackageReference: U10+2; PackageDescription: 10-Pin Micro-MAX, Thin Shrink Small-Outline (U10+2), Body 3 x 3 mm, Pitch 0.5 mm; Supplier 1: Digi-Key; Supplier Part Number 1: MAX6641AUB96+T-ND; Supplier 2: Mouser; Supplier Part Number 2: 700-MAX6641AUB96T; Fan Cntrl.: PWM; Packing: Tape and Reel; Mounting Technology: Surface Mount; Code_JEDEC: MO-187; ComponentLink1Description: Manufacturer URL; ComponentLink1URL: http://www.maximintegrated.com/; ComponentLink2Description: Datasheet; ComponentLink2URL: http://datasheets.maximintegrated.com/en/ds/MAX6641.pdf; ComponentLink3Description: Package Specification; ComponentLink3URL: http://pdfserv.maximintegrated.com/package_dwgs/21-0061.PDF
footprint MAXM-U10+2_N (SOP, 10-Leads, Body 3x3mm, Pitch 0.5mm, IPC Medium Density)
footprint MAXM-U10+2_L (SOP, 10-Leads, Body 3x3mm, Pitch 0.5mm, IPC High Density)
footprint MAXM-U10+2_M (SOP, 10-Leads, Body 3x3mm, Pitch 0.5mm, IPC Low Density)
pins: 1 IC (power) "Internally Connected. Must be connected to GND.", 2 DXN "Combined Remote-Diode Cathode Connection and A/D Negative Input. Connect the cathode of the remote-diode-connected transistor to DXN.", 3 DXP "Combined Remote-Diode Current Source and A/D Positive Input for Remote-Diode Channel. Connect DXP to the anode of a remote-diode-connected temperature-sensing transistor. DO NOT EAVE DXP FLOATING; connect to DXN if no remote (See Datasheet)", 4 GND (power) "Ground", 5 ~{OT} (hiz) "Active-Low, Open-Drain, Over-Temperature Output. Use O\T\ as an interrupt, a system shutdown signal, or to control clock throttling. O\T\ can be pulled up to 5.5V, regardless of the voltage on VCC. O\T\ is high impedance (See Datasheet)", 6 IC (power) "Internally Connected. Must be connected to GND.", 7 SMBCLK (in) "SMBus Serial-Clock Input. SMBCLK can be pulled up to 5.5V, regardless of VCC. Open drain.SMBCLK is high impedance when VCC = 0.", 8 SMBDATA (io) "SMBus Serial-Data Input/Output. SMBDATA can be pulled up to 5.5V, regardless of VCC. Open drain. SMBDATA is high impedance when VCC = 0.", 9 VCC (power) "Positive Supply. Bypass with a 0.1uF capacitor to GND.", 10 PWMOUT (out) "PWM Output to Fan Power Transistor. Connect PWMOUT to the gate of a MOSFET or the base of a bipolar transistor to drive the fan’s power supply with a PWM waveform. Alternatively, the PWM output can be connected to the PWM (See Datasheet)"

## MAX6641AUB96-T
designator U?
SMBus-Compatible Temperature Monitor with Automatic PWM Fan-Speed Controller, -40 to 125 degC, 10-Pin SOP (U10-2), Tape and Reel; Generic Part Number: MAX6641; PartNumber: MAX6641AUB96-T; Interface: 2-Wire/I2C/SMBus; DatasheetVersion: Rev. 1; PackageVersion: Rev. L, 07/2008; PackageReference: U10-2; PackageDescription: 10-Pin Micro-MAX, Thin Shrink Small-Outline (U10-2), Body 3 x 3 mm, Pitch 0.5 mm; Supplier 1: Mouser; Supplier Part Number 1: N/A; Fan Cntrl.: PWM; Packing: Tape and Reel; Mounting Technology: Surface Mount; Code_JEDEC: MO-187; ComponentLink1Description: Manufacturer URL; ComponentLink1URL: http://www.maximintegrated.com/; ComponentLink2Description: Datasheet; ComponentLink2URL: http://datasheets.maximintegrated.com/en/ds/MAX6641.pdf; ComponentLink3Description: Package Specification; ComponentLink3URL: http://pdfserv.maximintegrated.com/package_dwgs/21-0061.PDF
footprint MAXM-U10-2_N (SOP, 10-Leads, Body 3x3mm, Pitch 0.5mm, IPC Medium Density)
footprint MAXM-U10-2_L (SOP, 10-Leads, Body 3x3mm, Pitch 0.5mm, IPC High Density)
footprint MAXM-U10-2_M (SOP, 10-Leads, Body 3x3mm, Pitch 0.5mm, IPC Low Density)
pins: 1 IC (power) "Internally Connected. Must be connected to GND.", 2 DXN "Combined Remote-Diode Cathode Connection and A/D Negative Input. Connect the cathode of the remote-diode-connected transistor to DXN.", 3 DXP "Combined Remote-Diode Current Source and A/D Positive Input for Remote-Diode Channel. Connect DXP to the anode of a remote-diode-connected temperature-sensing transistor. DO NOT EAVE DXP FLOATING; connect to DXN if no remote (See Datasheet)", 4 GND (power) "Ground", 5 ~{OT} (hiz) "Active-Low, Open-Drain, Over-Temperature Output. Use O\T\ as an interrupt, a system shutdown signal, or to control clock throttling. O\T\ can be pulled up to 5.5V, regardless of the voltage on VCC. O\T\ is high impedance (See Datasheet)", 6 IC (power) "Internally Connected. Must be connected to GND.", 7 SMBCLK (in) "SMBus Serial-Clock Input. SMBCLK can be pulled up to 5.5V, regardless of VCC. Open drain.SMBCLK is high impedance when VCC = 0.", 8 SMBDATA (io) "SMBus Serial-Data Input/Output. SMBDATA can be pulled up to 5.5V, regardless of VCC. Open drain. SMBDATA is high impedance when VCC = 0.", 9 VCC (power) "Positive Supply. Bypass with a 0.1uF capacitor to GND.", 10 PWMOUT (out) "PWM Output to Fan Power Transistor. Connect PWMOUT to the gate of a MOSFET or the base of a bipolar transistor to drive the fan’s power supply with a PWM waveform. Alternatively, the PWM output can be connected to the PWM (See Datasheet)"

## MAX6642ATT9A-T
designator U?
+ / -1 degC, SMBus-Compatible Remote / Local Temperature Sensor with Overtemperature Alarm, 10 Bits Temperature Resolution, -40 to 125 degC, 6-Pin SON (T633-2), Tape and Reel; Generic Part Number: MAX6642; PartNumber: MAX6642ATT9A-T; Alarm Output: Alert; Functions: Remote & Local Sensor, Single Temperature Alarm; Interface: 2-Wire/I2C/SMBus; Parasite Pwr.: No; DatasheetVersion: Rev. 3; PackageVersion: Rev. J, 08/2009; PackageReference: T633-2; PackageDescription: 6-Pin Plastic Very Very Thin Dual Flatpack No Leads, Exposed Pad, Body 3 x 3 mm, Exposed Pad 2.3 x 1.5 mm, Pitch 0.95 mm; Supplier 1: Mouser; Supplier Part Number 1: N/A; Packing: Tape and Reel; Mounting Technology: Surface Mount; Code_JEDEC: MO-229; ComponentLink1Description: Manufacturer URL; ComponentLink1URL: http://www.maximintegrated.com/; ComponentLink2Description: Datasheet; ComponentLink2URL: http://datasheets.maximintegrated.com/en/ds/MAX6642.pdf; ComponentLink3Description: Package Specification; ComponentLink3URL: http://pdfserv.maximintegrated.com/package_dwgs/21-0137.PDF
footprint MAXM-T633-2_V (SON, 6-Leads, Body 3x3mm, Pitch 0.95mm, Thermal Pad 1.5x2.3mm)
pins: 1 VCC (power) "Supply Voltage Input, +3V to +5.5V. Bypass VCC to GND with a 0.1uF capacitor. A 47ohm series resistor is recommended but not required for additional noise filtering.", 2 GND (power) "Ground", 3 DXP "Combined Remote-Diode Current Source and ADC Input for Remote-Diode Channel. Place a 2200pF capacitor between DXP and GND for noise filtering.", 4 SCLK (in) "SMBus Serial-Clock Input. May be pulled up to +5.5V regardless of VCC.", 5 SDA (io) "SMBus Serial-Data Input/Output, Open Drain. May be pulled up to +5.5V regardless of VCC.", 6 ~{ALERT} (oc) "SMBus Alert (Interrupt) Output, Open Drain. A\L\E\R\T\ asserts when temperature exceeds user-set limits. See the A\L\E\R\T\ Interrupts section.", 7 EP (power) "Exposed Pad. Internally connected to GND. Connect to a PCB ground pad for optimal performance. Not intended as an electrical connection point."

## MAX6642ATT9C+T
designator U?
+ / -1 degC, SMBus-Compatible Remote / Local Temperature Sensor with Overtemperature Alarm, 10 Bits Temperature Resolution, -40 to 125 degC, 6-Pin SON (T633+2), Pb-Free, Tape and Reel; Generic Part Number: MAX6642; PartNumber: MAX6642ATT9C+T; Alarm Output: Alert; Functions: Remote & Local Sensor, Single Temperature Alarm; Interface: 2-Wire/I2C/SMBus; Parasite Pwr.: No; DatasheetVersion: Rev. 3; PackageVersion: Rev. J, 08/2009; PackageReference: T633+2; PackageDescription: 6-Pin Plastic Very Very Thin Dual Flatpack No Leads, Exposed Pad, Body 3 x 3 mm, Exposed Pad 2.3 x 1.5 mm, Pitch 0.95 mm; Supplier 1: Digi-Key; Supplier Part Number 1: MAX6642ATT9C+T-ND; Supplier 2: Mouser; Supplier Part Number 2: 700-MAX6642ATT9C+T; Packing: Tape and Reel; Mounting Technology: Surface Mount; Code_JEDEC: MO-229; ComponentLink1Description: Manufacturer URL; ComponentLink1URL: http://www.maximintegrated.com/; ComponentLink2Description: Datasheet; ComponentLink2URL: http://datasheets.maximintegrated.com/en/ds/MAX6642.pdf; ComponentLink3Description: Package Specification; ComponentLink3URL: http://pdfserv.maximintegrated.com/package_dwgs/21-0137.PDF
footprint MAXM-T633+2_V (SON, 6-Leads, Body 3x3mm, Pitch 0.95mm, Thermal Pad 2.3X1.5mm)
pins: 1 VCC (power) "Supply Voltage Input, +3V to +5.5V. Bypass VCC to GND with a 0.1uF capacitor. A 47ohm series resistor is recommended but not required for additional noise filtering.", 2 GND (power) "Ground", 3 DXP "Combined Remote-Diode Current Source and ADC Input for Remote-Diode Channel. Place a 2200pF capacitor between DXP and GND for noise filtering.", 4 SCLK (in) "SMBus Serial-Clock Input. May be pulled up to +5.5V regardless of VCC.", 5 SDA (io) "SMBus Serial-Data Input/Output, Open Drain. May be pulled up to +5.5V regardless of VCC.", 6 ~{ALERT} (oc) "SMBus Alert (Interrupt) Output, Open Drain. A\L\E\R\T\ asserts when temperature exceeds user-set limits. See the A\L\E\R\T\ Interrupts section.", 7 EP (power) "Exposed Pad. Internally connected to GND. Connect to a PCB ground pad for optimal performance. Not intended as an electrical connection point."

## MAX6642ATT9C-T
designator U?
+ / -1 degC, SMBus-Compatible Remote / Local Temperature Sensor with Overtemperature Alarm, 10 Bits Temperature Resolution, -40 to 125 degC, 6-Pin SON (T633-2), Tape and Reel; Generic Part Number: MAX6642; PartNumber: MAX6642ATT9C-T; Alarm Output: Alert; Functions: Remote & Local Sensor, Single Temperature Alarm; Interface: 2-Wire/I2C/SMBus; Parasite Pwr.: No; DatasheetVersion: Rev. 3; PackageVersion: Rev. J, 08/2009; PackageReference: T633-2; PackageDescription: 6-Pin Plastic Very Very Thin Dual Flatpack No Leads, Exposed Pad, Body 3 x 3 mm, Exposed Pad 2.3 x 1.5 mm, Pitch 0.95 mm; Supplier 1: Mouser; Supplier Part Number 1: N/A; Packing: Tape and Reel; Mounting Technology: Surface Mount; Code_JEDEC: MO-229; ComponentLink1Description: Manufacturer URL; ComponentLink1URL: http://www.maximintegrated.com/; ComponentLink2Description: Datasheet; ComponentLink2URL: http://datasheets.maximintegrated.com/en/ds/MAX6642.pdf; ComponentLink3Description: Package Specification; ComponentLink3URL: http://pdfserv.maximintegrated.com/package_dwgs/21-0137.PDF
footprint MAXM-T633-2_V (SON, 6-Leads, Body 3x3mm, Pitch 0.95mm, Thermal Pad 1.5x2.3mm)
pins: 1 VCC (power) "Supply Voltage Input, +3V to +5.5V. Bypass VCC to GND with a 0.1uF capacitor. A 47ohm series resistor is recommended but not required for additional noise filtering.", 2 GND (power) "Ground", 3 DXP "Combined Remote-Diode Current Source and ADC Input for Remote-Diode Channel. Place a 2200pF capacitor between DXP and GND for noise filtering.", 4 SCLK (in) "SMBus Serial-Clock Input. May be pulled up to +5.5V regardless of VCC.", 5 SDA (io) "SMBus Serial-Data Input/Output, Open Drain. May be pulled up to +5.5V regardless of VCC.", 6 ~{ALERT} (oc) "SMBus Alert (Interrupt) Output, Open Drain. A\L\E\R\T\ asserts when temperature exceeds user-set limits. See the A\L\E\R\T\ Interrupts section.", 7 EP (power) "Exposed Pad. Internally connected to GND. Connect to a PCB ground pad for optimal performance. Not intended as an electrical connection point."

## MAX6642ATT9E-T
designator U?
+ / -1 degC, SMBus-Compatible Remote / Local Temperature Sensor with Overtemperature Alarm, 10 Bits Temperature Resolution, -40 to 125 degC, 6-Pin SON (T633-2), Tape and Reel; Generic Part Number: MAX6642; PartNumber: MAX6642ATT9E-T; Alarm Output: Alert; Functions: Remote & Local Sensor, Single Temperature Alarm; Interface: 2-Wire/I2C/SMBus; Parasite Pwr.: No; DatasheetVersion: Rev. 3; PackageVersion: Rev. J, 08/2009; PackageReference: T633-2; PackageDescription: 6-Pin Plastic Very Very Thin Dual Flatpack No Leads, Exposed Pad, Body 3 x 3 mm, Exposed Pad 2.3 x 1.5 mm, Pitch 0.95 mm; Supplier 1: Mouser; Supplier Part Number 1: N/A; Packing: Tape and Reel; Mounting Technology: Surface Mount; Code_JEDEC: MO-229; ComponentLink1Description: Manufacturer URL; ComponentLink1URL: http://www.maximintegrated.com/; ComponentLink2Description: Datasheet; ComponentLink2URL: http://datasheets.maximintegrated.com/en/ds/MAX6642.pdf; ComponentLink3Description: Package Specification; ComponentLink3URL: http://pdfserv.maximintegrated.com/package_dwgs/21-0137.PDF
footprint MAXM-T633-2_V (SON, 6-Leads, Body 3x3mm, Pitch 0.95mm, Thermal Pad 1.5x2.3mm)
pins: 1 VCC (power) "Supply Voltage Input, +3V to +5.5V. Bypass VCC to GND with a 0.1uF capacitor. A 47ohm series resistor is recommended but not required for additional noise filtering.", 2 GND (power) "Ground", 3 DXP "Combined Remote-Diode Current Source and ADC Input for Remote-Diode Channel. Place a 2200pF capacitor between DXP and GND for noise filtering.", 4 SCLK (in) "SMBus Serial-Clock Input. May be pulled up to +5.5V regardless of VCC.", 5 SDA (io) "SMBus Serial-Data Input/Output, Open Drain. May be pulled up to +5.5V regardless of VCC.", 6 ~{ALERT} (oc) "SMBus Alert (Interrupt) Output, Open Drain. A\L\E\R\T\ asserts when temperature exceeds user-set limits. See the A\L\E\R\T\ Interrupts section.", 7 EP (power) "Exposed Pad. Internally connected to GND. Connect to a PCB ground pad for optimal performance. Not intended as an electrical connection point."

## MAX6642ATT90+
designator U?
+ / -1 degC, SMBus-Compatible Remote / Local Temperature Sensor with Overtemperature Alarm, 10 Bits Temperature Resolution, -40 to 125 degC, 6-Pin SON (T633+2), Pb-Free; Generic Part Number: MAX6642; PartNumber: MAX6642ATT90+; Alarm Output: Alert; Functions: Remote & Local Sensor, Single Temperature Alarm; Interface: 2-Wire/I2C/SMBus; Parasite Pwr.: No; DatasheetVersion: Rev. 3; PackageVersion: Rev. J, 08/2009; PackageReference: T633+2; PackageDescription: 6-Pin Plastic Very Very Thin Dual Flatpack No Leads, Exposed Pad, Body 3 x 3 mm, Exposed Pad 2.3 x 1.5 mm, Pitch 0.95 mm; Supplier 1: Mouser; Supplier Part Number 1: N/A; Mounting Technology: Surface Mount; Code_JEDEC: MO-229; ComponentLink1Description: Manufacturer URL; ComponentLink1URL: http://www.maximintegrated.com/; ComponentLink2Description: Datasheet; ComponentLink2URL: http://datasheets.maximintegrated.com/en/ds/MAX6642.pdf; ComponentLink3Description: Package Specification; ComponentLink3URL: http://pdfserv.maximintegrated.com/package_dwgs/21-0137.PDF
footprint MAXM-T633+2_V (SON, 6-Leads, Body 3x3mm, Pitch 0.95mm, Thermal Pad 2.3X1.5mm)
pins: 1 VCC (power) "Supply Voltage Input, +3V to +5.5V. Bypass VCC to GND with a 0.1uF capacitor. A 47ohm series resistor is recommended but not required for additional noise filtering.", 2 GND (power) "Ground", 3 DXP "Combined Remote-Diode Current Source and ADC Input for Remote-Diode Channel. Place a 2200pF capacitor between DXP and GND for noise filtering.", 4 SCLK (in) "SMBus Serial-Clock Input. May be pulled up to +5.5V regardless of VCC.", 5 SDA (io) "SMBus Serial-Data Input/Output, Open Drain. May be pulled up to +5.5V regardless of VCC.", 6 ~{ALERT} (oc) "SMBus Alert (Interrupt) Output, Open Drain. A\L\E\R\T\ asserts when temperature exceeds user-set limits. See the A\L\E\R\T\ Interrupts section.", 7 EP (power) "Exposed Pad. Internally connected to GND. Connect to a PCB ground pad for optimal performance. Not intended as an electrical connection point."

## MAX6642ATT90+T
designator U?
+ / -1 degC, SMBus-Compatible Remote / Local Temperature Sensor with Overtemperature Alarm, 10 Bits Temperature Resolution, -40 to 125 degC, 6-Pin SON (T633+2), Pb-Free, Tape and Reel; Generic Part Number: MAX6642; PartNumber: MAX6642ATT90+T; Alarm Output: Alert; Functions: Remote & Local Sensor, Single Temperature Alarm; Interface: 2-Wire/I2C/SMBus; Parasite Pwr.: No; DatasheetVersion: Rev. 3; PackageVersion: Rev. J, 08/2009; PackageReference: T633+2; PackageDescription: 6-Pin Plastic Very Very Thin Dual Flatpack No Leads, Exposed Pad, Body 3 x 3 mm, Exposed Pad 2.3 x 1.5 mm, Pitch 0.95 mm; Supplier 1: Digi-Key; Supplier Part Number 1: MAX6642ATT90+TTR-ND; Supplier 2: Digi-Key; Supplier Part Number 2: MAX6642ATT90+TCT-ND; Supplier 3: Digi-Key; Supplier Part Number 3: MAX6642ATT90+TDKR-ND; Supplier 4: Mouser; Supplier Part Number 4: 700-MAX6642ATT90T; Packing: Tape and Reel; Mounting Technology: Surface Mount; Code_JEDEC: MO-229; ComponentLink1Description: Manufacturer URL; ComponentLink1URL: http://www.maximintegrated.com/; ComponentLink2Description: Datasheet; ComponentLink2URL: http://datasheets.maximintegrated.com/en/ds/MAX6642.pdf; ComponentLink3Description: Package Specification; ComponentLink3URL: http://pdfserv.maximintegrated.com/package_dwgs/21-0137.PDF
footprint MAXM-T633+2_V (SON, 6-Leads, Body 3x3mm, Pitch 0.95mm, Thermal Pad 2.3X1.5mm)
pins: 1 VCC (power) "Supply Voltage Input, +3V to +5.5V. Bypass VCC to GND with a 0.1uF capacitor. A 47ohm series resistor is recommended but not required for additional noise filtering.", 2 GND (power) "Ground", 3 DXP "Combined Remote-Diode Current Source and ADC Input for Remote-Diode Channel. Place a 2200pF capacitor between DXP and GND for noise filtering.", 4 SCLK (in) "SMBus Serial-Clock Input. May be pulled up to +5.5V regardless of VCC.", 5 SDA (io) "SMBus Serial-Data Input/Output, Open Drain. May be pulled up to +5.5V regardless of VCC.", 6 ~{ALERT} (oc) "SMBus Alert (Interrupt) Output, Open Drain. A\L\E\R\T\ asserts when temperature exceeds user-set limits. See the A\L\E\R\T\ Interrupts section.", 7 EP (power) "Exposed Pad. Internally connected to GND. Connect to a PCB ground pad for optimal performance. Not intended as an electrical connection point."

## MAX6642ATT90-T
designator U?
+ / -1 degC, SMBus-Compatible Remote / Local Temperature Sensor with Overtemperature Alarm, 10 Bits Temperature Resolution, -40 to 125 degC, 6-Pin SON (T633-2), Tape and Reel; Generic Part Number: MAX6642; PartNumber: MAX6642ATT90-T; Alarm Output: Alert; Functions: Remote & Local Sensor, Single Temperature Alarm; Interface: 2-Wire/I2C/SMBus; Parasite Pwr.: No; DatasheetVersion: Rev. 3; PackageVersion: Rev. J, 08/2009; PackageReference: T633-2; PackageDescription: 6-Pin Plastic Very Very Thin Dual Flatpack No Leads, Exposed Pad, Body 3 x 3 mm, Exposed Pad 2.3 x 1.5 mm, Pitch 0.95 mm; Supplier 1: Mouser; Supplier Part Number 1: N/A; Packing: Tape and Reel; Mounting Technology: Surface Mount; Code_JEDEC: MO-229; ComponentLink1Description: Manufacturer URL; ComponentLink1URL: http://www.maximintegrated.com/; ComponentLink2Description: Datasheet; ComponentLink2URL: http://datasheets.maximintegrated.com/en/ds/MAX6642.pdf; ComponentLink3Description: Package Specification; ComponentLink3URL: http://pdfserv.maximintegrated.com/package_dwgs/21-0137.PDF
footprint MAXM-T633-2_V (SON, 6-Leads, Body 3x3mm, Pitch 0.95mm, Thermal Pad 1.5x2.3mm)
pins: 1 VCC (power) "Supply Voltage Input, +3V to +5.5V. Bypass VCC to GND with a 0.1uF capacitor. A 47ohm series resistor is recommended but not required for additional noise filtering.", 2 GND (power) "Ground", 3 DXP "Combined Remote-Diode Current Source and ADC Input for Remote-Diode Channel. Place a 2200pF capacitor between DXP and GND for noise filtering.", 4 SCLK (in) "SMBus Serial-Clock Input. May be pulled up to +5.5V regardless of VCC.", 5 SDA (io) "SMBus Serial-Data Input/Output, Open Drain. May be pulled up to +5.5V regardless of VCC.", 6 ~{ALERT} (oc) "SMBus Alert (Interrupt) Output, Open Drain. A\L\E\R\T\ asserts when temperature exceeds user-set limits. See the A\L\E\R\T\ Interrupts section.", 7 EP (power) "Exposed Pad. Internally connected to GND. Connect to a PCB ground pad for optimal performance. Not intended as an electrical connection point."

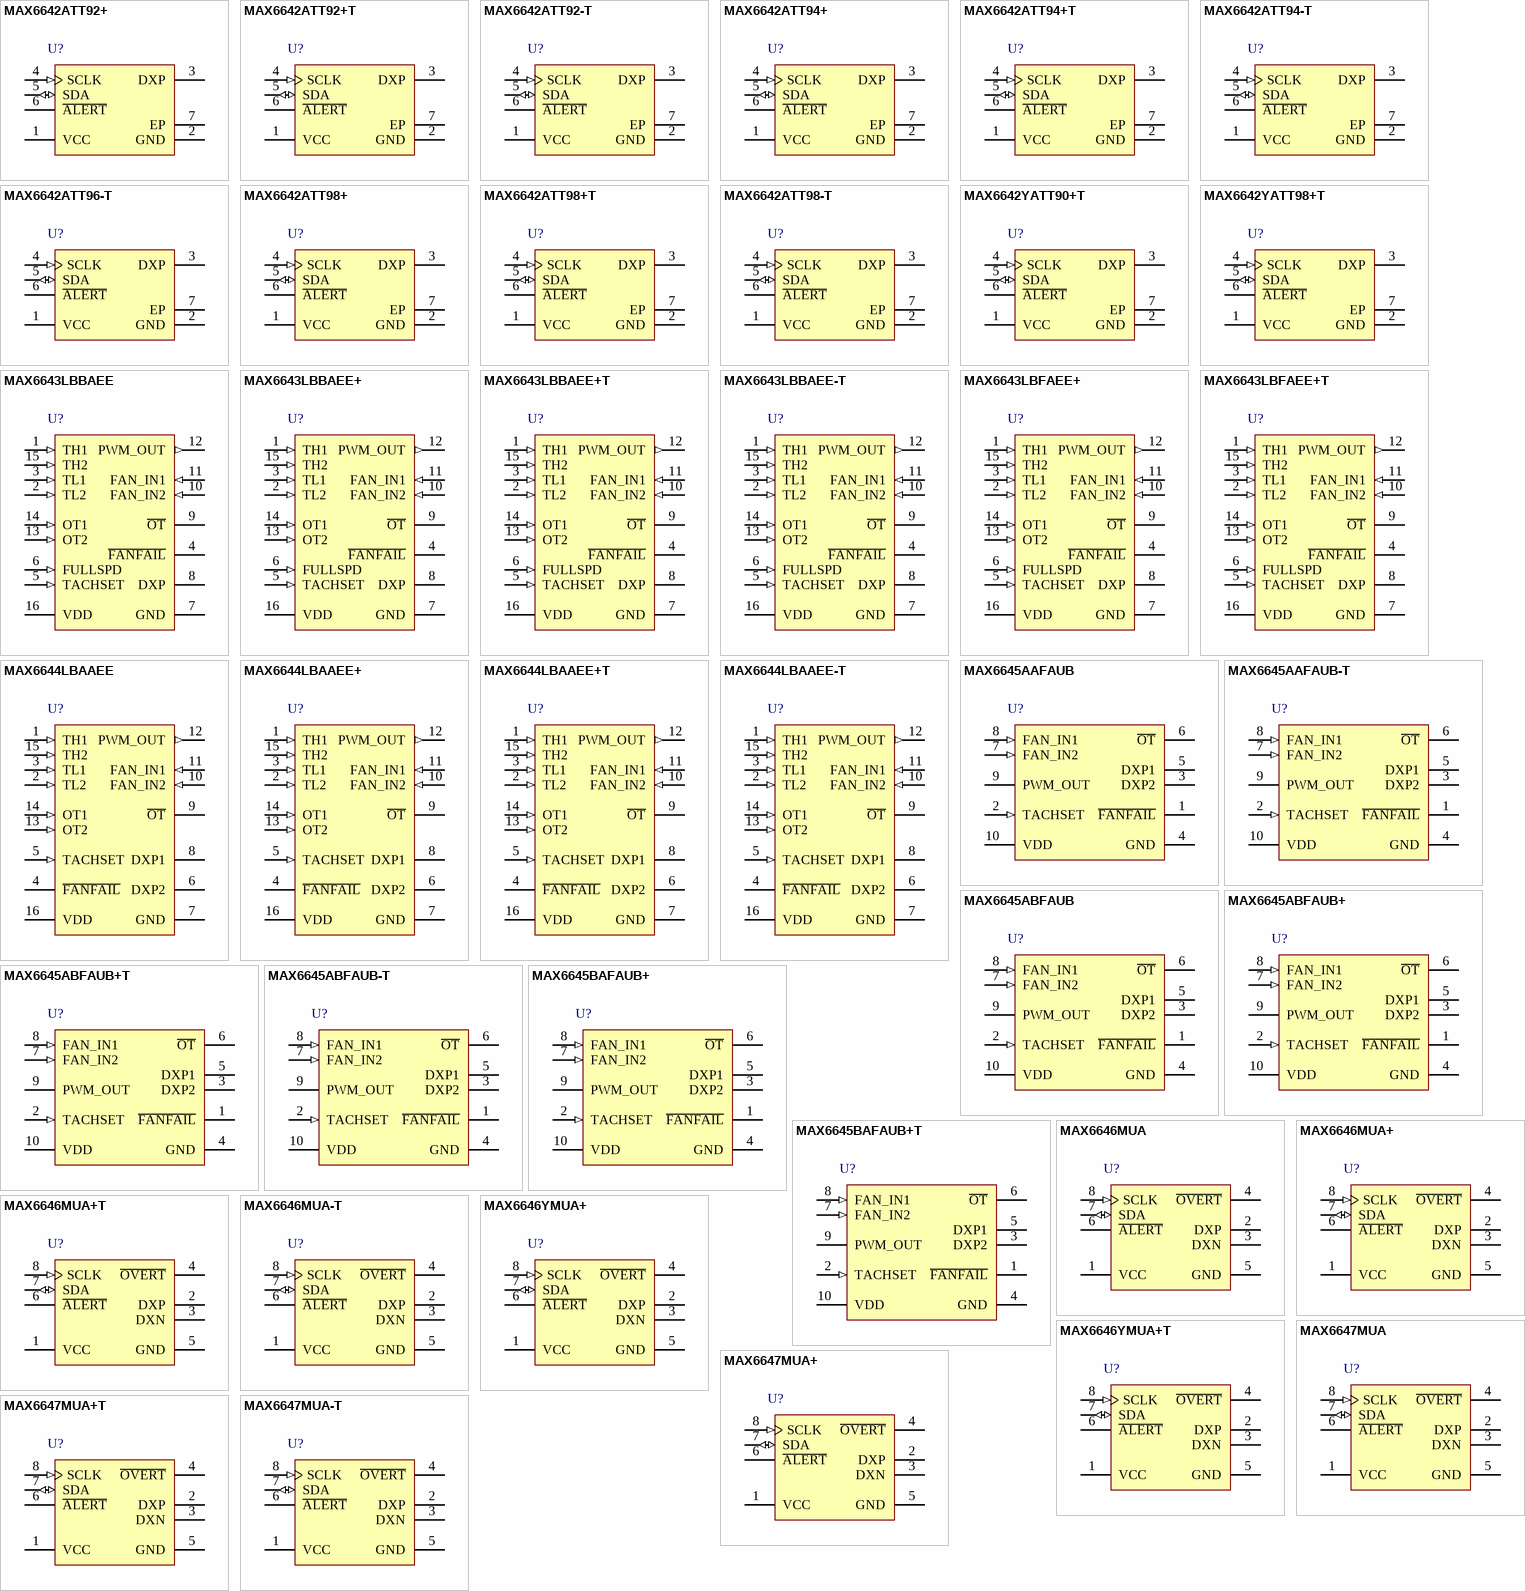
[diagram p18: symbols MAX6642ATT92+ to MAX6647MUA-T]